# EAGLE library part TL494 (library den)
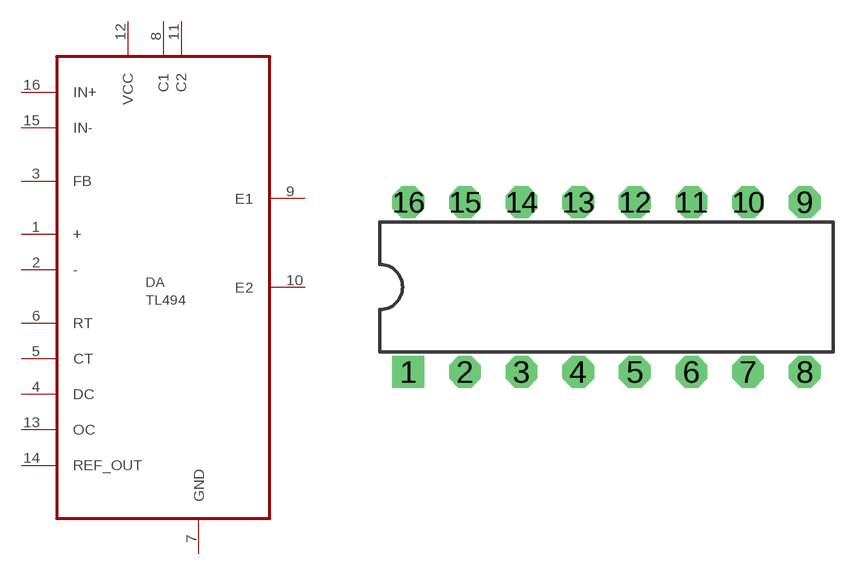
[diagram p39: symbol with the pads of DIL16; footprint DIL16]

Designator prefix DA

## TL494  [DIL16]
1  +  in
2  -  in
3  FB
4  DC  in
5  CT  pas
6  RT  pas
7  GND  pwr
8  C1  pas
9  E1  out
10  E2  out
11  C2  pas
12  VCC  pwr
13  OC  in
14  REF_OUT  out
15  IN-  in
16  IN+  in

## Footprint DIL16 (pad centres in mm)
Dual In Line Package
drill 0.8 pad 1.422 square: 1 -8.89,-3.81
drill 0.8 pad 1.422 octagon: 2 -6.35,-3.81; 3 -3.81,-3.81; 4 -1.27,-3.81; 5 1.27,-3.81; 6 3.81,-3.81; 7 6.35,-3.81; 8 8.89,-3.81; 9 8.89,3.81; 10 6.35,3.81; 11 3.81,3.81; 12 1.27,3.81; 13 -1.27,3.81; 14 -3.81,3.81; 15 -6.35,3.81; 16 -8.89,3.81